# Altium footprint library fci-rect-2_54mm.PcbLib: 4 footprints
Each footprint in its own frame and in the unit in brackets; x right, y up, seen from the top. Pads: shape width x height; smd on the part's side, far side on the other; paste and mask are expansions set on the pad; w line width, h text height; cw(c..) or ccw(c..) is an arc to the next point about the centre after c.
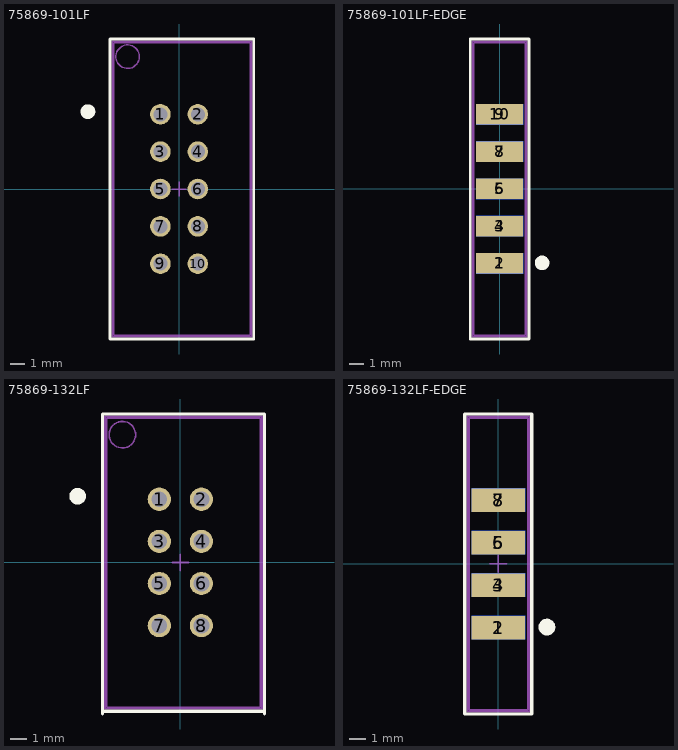
[diagram p0: the footprints below, top view; thin cyan lines are the x and y axes]

## 75869-101LF [mm] "SHROUDED  .025\"  SQ  POST HEADER 2.54mm 2x5"
height 4.32
pads (10):
  round 1.4 hole 0.95: 1(-1.27,5.08) 2(1.27,5.08) 3(-1.27,2.54) 4(1.27,2.54) 5(-1.27,0) 6(1.27,0) 7(-1.27,-2.54) 8(1.27,-2.54) 9(-1.27,-5.08) 10(1.27,-5.08)
Top Overlay:
  circle w0.5: c-6.2,5.26 r0.25
  lines w0.2: -4.7,-10.2 5.075,-10.2 5.075,10.2 -4.7,10.2 -4.7,-10.2
Mechanical 13:
  lines w0.1: -0.5,0 0.5,0 ; 0,-0.5 0,0.5 ; -4.45,-9.95 -4.45,9.95 4.825,9.95 4.825,-9.95 -4.45,-9.95
Mechanical 15:
  circle w0.1: c-3.5,9 r0.8
  lines w0.1: -4.55,-10.05 -4.55,10.05 4.925,10.05 4.925,-10.05 -4.55,-10.05
  text ".Designator" at 0.225,-2.56 h0.8
3D body: height 9.34, standoff -3.03, extent -4.45,-9.955 4.82,9.955

## 75869-101LF-EDGE [mm] "SHROUDED  .025\"  SQ  POST HEADER 2.54mm 2x5"
height 4.32
pads (10):
  rect 3.2x1.4 smd: 1(0,-5.08) 3(0,-2.54) 5(0,0) 7(0,2.54) 9(0,5.08)
  rect 3.2x1.4 smd far side: 2(0,-5.08) 4(0,-2.54) 6(0,0) 8(0,2.54) 10(0,5.08)
Top Overlay:
  circle w0.5: c2.9,-5.045 r0.25
  lines w0.2: -2,-10.235 2,-10.235 2,10.225 -2,10.225 -2,-10.235
Mechanical 13:
  lines w0.1: -0.5,0 0.5,0 ; 0,-0.5 0,0.5 ; -1.75,-9.995 1.75,-9.995 1.75,9.975 -1.75,9.975 -1.75,-9.995
Mechanical 15:
  lines w0.1: -1.85,-10.095 1.85,-10.095 1.85,10.075 -1.85,10.075 -1.85,-10.095
  text ".Designator" at 0.225,-3.83 h0.8
3D body: height 3.5, standoff -5.77, extent -11.169,-9.955 1.2,9.955

## 75869-132LF [mm] "SHROUDED  .025\"  SQ  POST HEADER 2.54mm 2x4"
height 4.32
pads (8):
  round 1.4 hole 0.95: 1(-1.27,3.81) 2(1.27,3.81) 3(-1.27,1.27) 4(1.27,1.27) 5(-1.27,-1.27) 6(1.27,-1.27) 7(-1.27,-3.81) 8(1.27,-3.81)
Top Overlay:
  circle w0.5: c-6.2,3.99 r0.25
  lines w0.2: -4.7,-9.14 -4.7,8.95 5.075,8.95 5.075,2.5 5.075,-2.5 5.075,-9.14 ; -4.7,-8.965 5.075,-8.965
Mechanical 13:
  lines w0.1: -0.5,0 0.5,0 ; 0,-0.5 0,0.5 ; -4.45,-8.725 -4.45,8.7 4.825,8.7 4.825,-8.725 -4.45,-8.725
Mechanical 15:
  circle w0.1: c-3.5,7.7 r0.8
  lines w0.1: -4.55,-8.825 -4.55,8.8 4.925,8.8 4.925,-8.825 -4.55,-8.825
  text ".Designator" at 0.225,-2.56 h0.8
3D body: height 9.34, standoff -3.03, extent -4.45,-8.685 4.82,8.685

## 75869-132LF-EDGE [mm] "SHROUDED  .025\"  SQ  POST HEADER 2.54mm 2x4"
height 4.32
pads (8):
  rect 3.2x1.4 smd: 1(0,-3.81) 3(0,-1.27) 5(0,1.27) 7(0,3.81)
  rect 3.2x1.4 smd far side: 2(0,-3.81) 4(0,-1.27) 6(0,1.27) 8(0,3.81)
Top Overlay:
  circle w0.5: c2.9,-3.775 r0.25
  lines w0.2: -2,-8.965 -2,8.95 2,8.95 2,-8.965 -2,-8.965
Mechanical 13:
  lines w0.1: -0.5,0 0.5,0 ; 0,-0.5 0,0.5 ; -1.75,-8.725 -1.75,8.7 1.75,8.7 1.75,-8.725 -1.75,-8.725
Mechanical 15:
  lines w0.1: -1.85,-8.825 -1.85,8.8 1.85,8.8 1.85,-8.825 -1.85,-8.825
  text ".Designator" at 0.225,-2.56 h0.8
3D body: height 3.5, standoff -5.77, extent -11.17,-8.685 1.2,8.685